# Altium footprint library B10B-EH-A.PcbLib: 1 footprints
Each footprint in its own frame and in the unit in brackets; x right, y up, seen from the top. Pads: shape width x height; smd on the part's side, far side on the other; paste and mask are expansions set on the pad; w line width, h text height; cw(c..) or ccw(c..) is an arc to the next point about the centre after c.
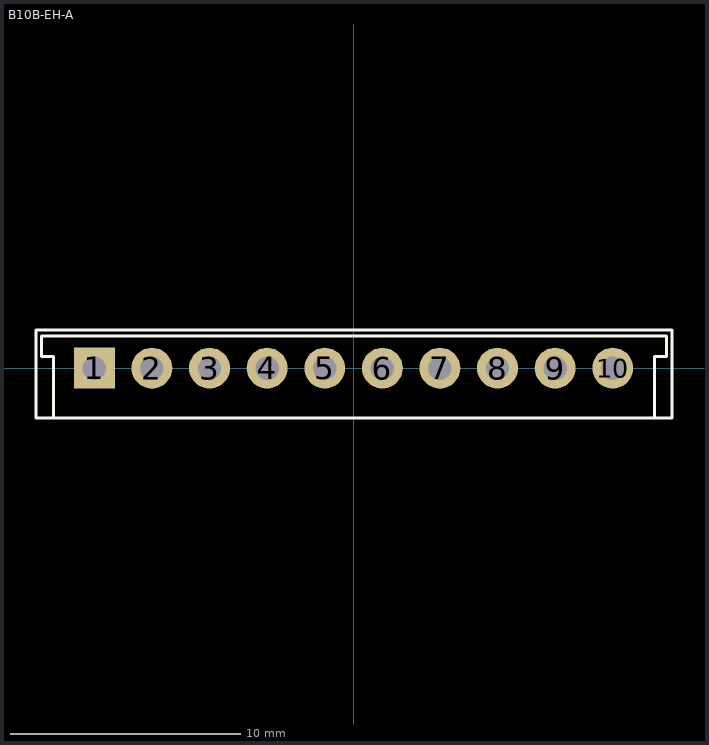
[diagram p0: the footprint, top view; thin cyan lines are the x and y axes]

## B10B-EH-A [mil] "EH Connector 2.5mm pitch"
height 236.22
pads (10):
  rect 70x70 hole 40: 1(-442.91,0)
  round 70 hole 40: 2(-344.49,0) 3(-246.06,0) 4(-147.64,0) 5(-49.21,0) 6(49.21,0) 7(147.64,0) 8(246.06,0) 9(344.49,0) 10(442.91,0)
TopOverlay:
  lines w5: -512.91,-85 -512.91,20 -532.91,20 -532.91,55 534.49,55 534.49,20 514.49,20 514.49,-85 ; -542.91,-85 -542.91,65 544.49,65 544.49,-85 -542.91,-85
3D body: height 236.22, standoff 0, extent -542.89,-84.98 544.47,64.98
3D body: height 39.37, standoff 0, extent -532.89,-84.98 534.47,54.98